# Altium schematic symbol library Schlib1.SchLib: 8 symbols
Pins are listed as number, name and electrical type; pins without a type are passive.

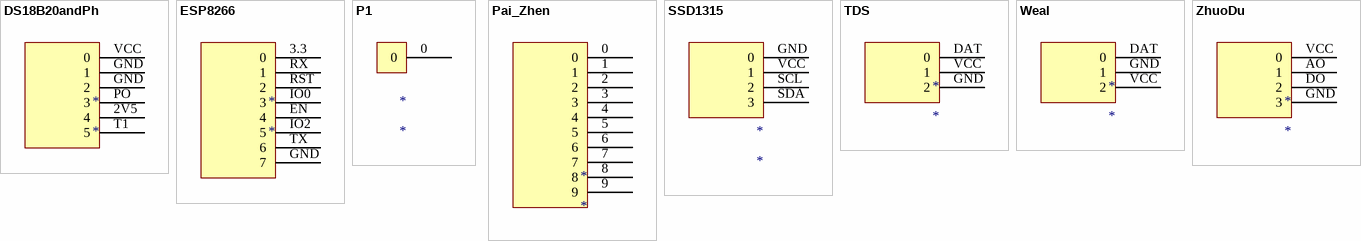
[diagram p0: symbols DS18B20andPh to ZhuoDu]

## DS18B20andPh
designator *
pins: 2V5 4, GND 1, GND 2, PO 3, T1 5, VCC 0

## ESP8266
designator *
pins: 3.3 0, EN 4, GND 7, IO0 3, IO2 5, RST 2, RX 1, TX 6

## P1
designator *
pins: 0

## Pai_Zhen
designator *
pins: 0, 1, 2, 3, 4, 5, 6, 7, 8, 9

## SSD1315
designator *
pins: GND 0, SCL 2, SDA 3, VCC 1

## TDS
designator *
pins: DAT 0, GND 2, VCC 1

## Weal
designator *
pins: DAT 0, GND 1, VCC 2

## ZhuoDu
designator *
pins: AO 1, DO 2, GND 3, VCC 0